# Altium schematic symbol library ADG721.SchLib: 1 symbol
Pins are listed as number, name and electrical type; pins without a type are passive.

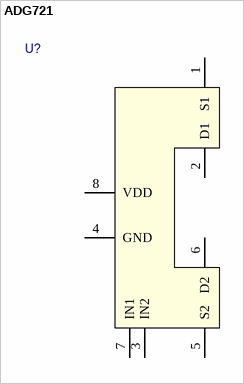
[diagram p0: symbol ADG721]

## ADG721
designator U?  (value not drawn)
pins: 1 S1, 2 D1, 3 IN2, 4 GND, 5 S2, 6 D2, 7 IN1, 8 VDD
1 alternate drawing of the same symbol